# Altium integrated library BrrLib.IntLib: 3 symbols
Pins are listed as number, name and electrical type; pins without a type are passive.

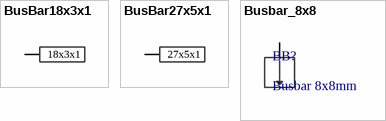
[diagram p0: symbols BusBar18x3x1 to Busbar_8x8]

## BusBar18x3x1
designator BB?, comment Busbar  (value not drawn)
footprint Busbar18x3x1
pins: 1
text: 18x3x1

## BusBar27x5x1
designator BB?, comment Busbar  (value not drawn)
footprint Busbar27x5x1
pins: 1
text: 27x5x1

## Busbar_8x8
designator BB?, comment Busbar 8x8mm
footprint BUSBAR_8x8
pins: 1